# EAGLE library part ATTINY15 (library ng)
Atmel ATtiny15L
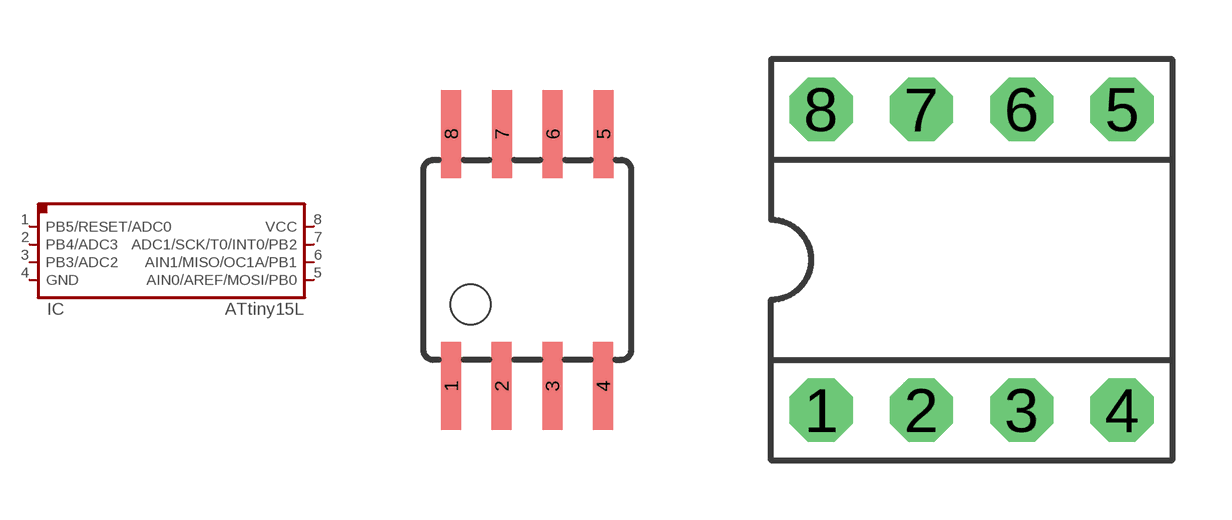
[diagram p0: symbol with the pads of SOIC8; footprints SOIC8, DIL08]

Designator prefix IC

## ATTINY15SMT  [SOIC8]
1  PB5/RESET/ADC0
2  PB4/ADC3
3  PB3/ADC2
4  GND
5  AIN0/AREF/MOSI/PB0
6  AIN1/MISO/OC1A/PB1
7  ADC1/SCK/T0/INT0/PB2
8  VCC

## ATTINY15DIP  [DIL08]
Pads as for SOIC8

## Footprint SOIC8 (pad centres in mm)
Wide Plastic Gull Wing Small Outline Package
smd 0.5 x 2.2: 1 -1.905,-3.154; 2 -0.645,-3.154; 3 0.625,-3.154; 4 1.895,-3.154; 5 1.905,3.154; 6 0.635,3.154; 7 -0.635,3.154; 8 -1.905,3.154

## Footprint DIL08 (pad centres in mm)
Dual In Line
drill 0.813 pad 1.6 octagon: 1 -3.81,-3.81; 2 -1.27,-3.81; 3 1.27,-3.81; 4 3.81,-3.81; 5 3.81,3.81; 6 1.27,3.81; 7 -1.27,3.81; 8 -3.81,3.81